# EAGLE library part LM319D (library ST Microelectronics)
High speed dual comparators
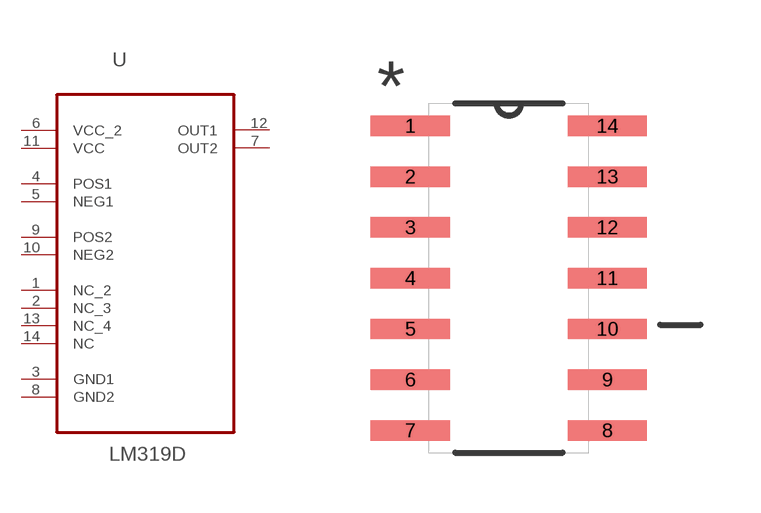
[diagram p112: symbol with the pads of SOIC127P600X175-14N; footprint SOIC127P600X175-14N]

Designator prefix U

## LM319D (MPN: LM319D; OC_FARNELL: 1467686; OC_NEWARK: 89K0686; PACKAGE: SOIC-14; SUPPLIER: STMICROELECTRONICS)  [SOIC127P600X175-14N]
1  NC_2  nc
2  NC_3  nc
3  GND1  pas
4  POS1  in
5  NEG1  in
6  VCC_2  pwr
7  OUT2  out
8  GND2  pas
9  POS2  in
10  NEG2  in
11  VCC  pwr
12  OUT1  out
13  NC_4  nc
14  NC  nc

## Footprint SOIC127P600X175-14N (pad centres in mm)
smd 1.981 x 0.508: 1 -2.464,3.81; 2 -2.464,2.54; 3 -2.464,1.27; 4 -2.464,0; 5 -2.464,-1.27; 6 -2.464,-2.54; 7 -2.464,-3.81; 8 2.464,-3.81; 9 2.464,-2.54; 10 2.464,-1.27; 11 2.464,0; 12 2.464,1.27; 13 2.464,2.54; 14 2.464,3.81